# Altium schematic symbol library Main_board.SchLib: 3 symbols
Pins are listed as number, name and electrical type; pins without a type are passive.

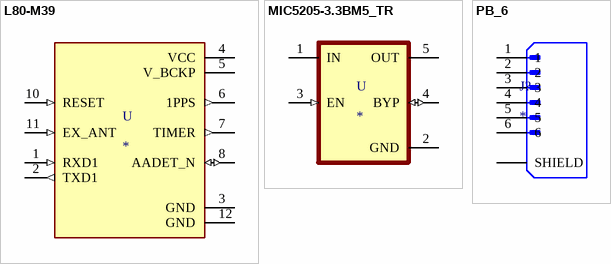
[diagram p0: symbols L80-M39 to PB_6]

## L80-M39
designator U
L80 is an ultra compact GPS POT _Patch on Top_ module with an embedded 15.0mm × 15.0mm × 4.0mm patch antenna.; MP: L80-M39; MF: Quectel; SnapEDA_Link: https://www.snapeda.com/parts/L80-M39/Quectel/view-part/51186/?ref=snap; Availability: Unavailable; Price: None; Value: *; Package: None
footprint XCVR_L80-M39
pins: 1 RXD1 (in), 2 TXD1 (out), 3 GND (power), 4 VCC (power), 5 V_BCKP (power), 6 1PPS (out), 7 TIMER (out), 8 AADET_N (io), 10 RESET (in), 11 EX_ANT (in), 12 GND (power)

## MIC5205-3.3BM5_TR
designator U
Linear Voltage Regulator IC 1 Output 150mA SOT-23-5; MP: MIC5205-3.3BM5 TR; MF: Micrel; Package: SOT-23-5 Micrel; Value: *; Availability: Unavailable; Price: None; SnapEDA_Link: https://www.snapeda.com/parts/MIC5205-3.3BM5%20TR/Micrel/view-part/225112/?ref=snap
pins: 1 IN (power), 2 GND (power), 3 EN (in), 4 BYP (io), 5 OUT (power)

## PB_6
designator J?
Connector Header Surface Mount 6 position 0.049 (1.25mm); MF: Molex; MP: 533980671; Price: None; Availability: Warning; SnapEDA_Link: https://www.snapeda.com/parts/533980671/Molex/view-part/4593507/?ref=snap; Value: *; Check_prices: https://www.snapeda.com/parts/533980671/Molex/view-part/4593507/?ref=eda; Package: None
pins: 1, 2, 3, 4, 5, 6, S1 SHIELD, S2 SHIELD